# Altium footprint library Vertical Plastic Modular Jack.PcbLib: 10 footprints
Each footprint in its own frame and in the unit in brackets; x right, y up, seen from the top. Pads: shape width x height; smd on the part's side, far side on the other; paste and mask are expansions set on the pad; w line width, h text height; cw(c..) or ccw(c..) is an arc to the next point about the centre after c.
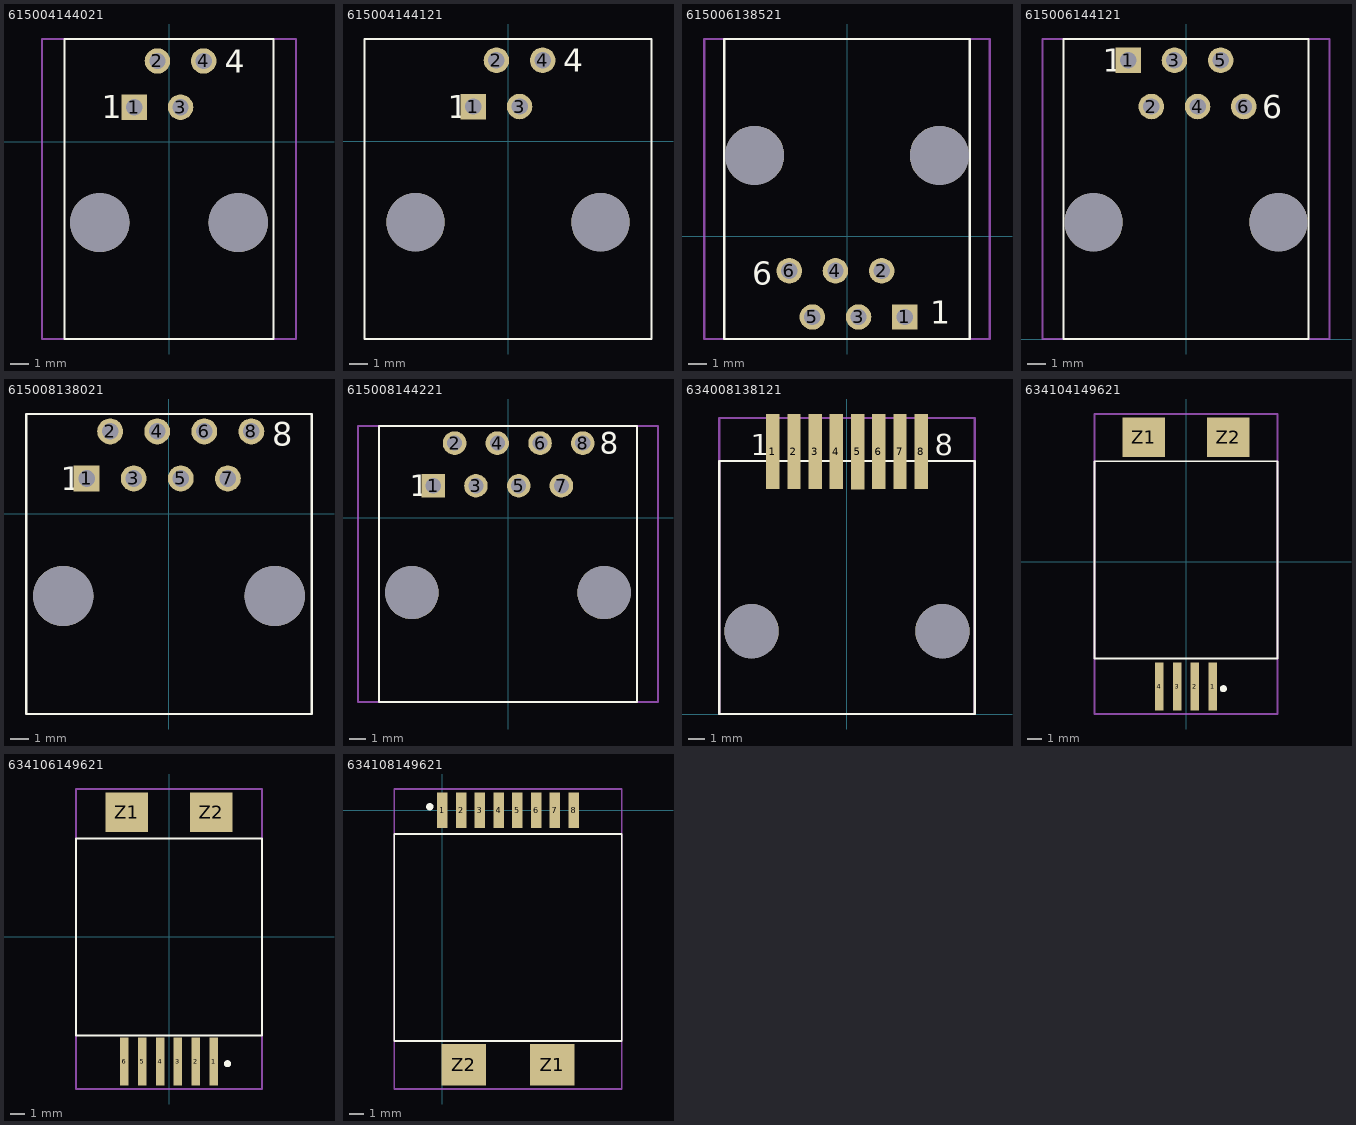
[diagram p0: the footprints below, top view; thin cyan lines are the x and y axes]

## 615004144021 [mm] "Vertical Plastic 1x1 TH    4P4C"
height 15.88
pads (6):
  rect 1.4x1.4 hole 0.9: 1(-1.905,1.905)
  round 1.4 hole 0.9: 2(-0.635,4.445) 3(0.635,1.905) 4(1.905,4.445)
  round 3.25 hole 3.25 unplated: ""(-3.81,-4.445) ""(3.81,-4.445)
Top Overlay:
  lines w0.127: -5.75,-10.845 -5.75,5.655 5.75,5.655 5.75,-10.845 -5.75,-10.845
  text "4" at 3.06,3.805 h1.27
  text "1" at -3.69,1.305 h1.27
Mechanical 15:
  lines w0.127: -6.985,-10.845 -6.985,5.655 6.985,5.655 6.985,-10.845 -6.985,-10.845
3D body: height 16.36, standoff -3.32, extent -6.985,-10.845 6.985,5.655

## 615004144121 [mm] "Vertical Plastic 1x1 TH    6P4C"
height 16.38
pads (6):
  rect 1.4x1.4 hole 0.9: 1(-1.905,1.905)
  round 1.4 hole 0.9: 2(-0.635,4.445) 3(0.635,1.905) 4(1.905,4.445)
  round 3.2 hole 3.2 unplated: ""(-5.08,-4.445) ""(5.08,-4.445)
Top Overlay:
  lines w0.127: -7.887,-10.865 7.887,-10.865 ; -7.887,-10.865 -7.887,5.615 ; -7.887,-10.865 7.887,-10.865 ; -7.887,-10.865 -7.887,5.615 ; -7.887,5.615 7.887,5.615 ; -7.887,5.615 7.887,5.615 ; 7.887,-10.865 7.887,5.615 ; 7.887,-10.865 7.887,5.615
  text "1" at -3.302,1.27 h1.27
  text "4" at 3.048,3.81 h1.27
3D body: height 3.31, standoff -16.37, extent -7.85,-10.865 7.85,5.615

## 615006138521 [mm] "6P6C vertical with ears"
height 15.8
pads (8):
  rect 1.4x1.4 hole 0.9: 1(3.175,-4.445)
  round 1.4 hole 0.9: 2(1.905,-1.905) 3(0.635,-4.445) 4(-0.635,-1.905) 5(-1.905,-4.445) 6(-3.175,-1.905)
  round 3.25 hole 3.25 unplated: ""(-5.08,4.445) ""(5.08,4.445)
Top Overlay:
  lines w0.127: -6.75,-5.655 6.75,-5.655 6.75,10.845 -6.75,10.845 -6.75,-5.655
  text "6" at -5.207,-2.667 h1.27
  text "1" at 4.572,-4.826 h1.27
Mechanical 13:
  lines w0.127: -7.85,-5.655 7.85,-5.655 7.85,10.845 -7.85,10.845 -7.85,-5.35 -7.85,-5.655
Mechanical 15:
  lines w0.127: -7.85,-5.655 -7.85,10.845 7.85,10.845 7.85,-5.655 -7.85,-5.655
3D body: height 16.28, standoff -3.31, extent -7.85,-5.655 7.85,10.845

## 615006144121 [mm] "Vertical Plastic 1x1 TH    6P6C"
height 16.38
pads (8):
  rect 1.4x1.4 hole 0.9: 1(-3.175,15.31)
  round 1.4 hole 0.9: 2(-1.905,12.77) 3(-0.635,15.31) 4(0.635,12.77) 5(1.905,15.31) 6(3.175,12.77)
  round 3.2 hole 3.2 unplated: ""(-5.08,6.42) ""(5.08,6.42)
Top Overlay:
  lines w0.127: -6.725,0 -6.725,16.48 6.725,16.48 6.725,0 -6.725,0
  text "6" at 4.191,12.135 h1.27
  text "1" at -4.572,14.675 h1.27
Mechanical 15:
  lines w0.127: -7.887,0 -7.887,16.48 7.887,16.48 7.887,0 -7.887,0
3D body: height 3.3, standoff -16.38, extent -7.85,0 7.85,16.48

## 615008138021 [mm] "RJ45 Vertical"
height 16.4
pads (10):
  rect 1.4x1.4 hole 0.9: 1(-4.445,1.905)
  round 1.4 hole 0.9: 2(-3.175,4.445) 3(-1.905,1.905) 4(-0.635,4.445) 5(0.635,1.905) 6(1.905,4.445) 7(3.175,1.905) 8(4.445,4.445)
  round 3.25 hole 3.25 unplated: ""(-5.715,-4.445) ""(5.715,-4.445)
Top Overlay:
  lines w0.127: -7.707,-10.815 -7.707,5.385 ; -7.707,-10.815 7.708,-10.815 ; -7.707,-10.815 -7.707,5.385 ; -7.707,-10.815 7.708,-10.815 ; -7.707,5.385 7.708,5.385 ; -7.707,5.385 7.708,5.385 ; 7.708,-10.815 7.708,5.385 ; 7.708,-10.815 7.708,5.385
  text "8" at 5.588,3.683 h1.27
  text "1" at -5.842,1.27 h1.27
3D body: height 2.99, standoff -16.91, extent -7.692,-10.815 7.708,5.385

## 615008144221 [mm] "Vertical Plastic 1x1 TH    8P8C"
height 16.38
pads (10):
  rect 1.4x1.4 hole 0.9: 1(-4.445,1.905)
  round 1.4 hole 0.9: 2(-3.175,4.445) 3(-1.905,1.905) 4(-0.635,4.445) 5(0.635,1.905) 6(1.905,4.445) 7(3.175,1.905) 8(4.445,4.445)
  round 3.17 hole 3.17 unplated: ""(-5.715,-4.445) ""(5.715,-4.445)
Top Overlay:
  lines w0.127: -7.68,-10.945 -7.68,5.455 7.68,5.455 7.68,-10.945 -7.68,-10.945
  text "8" at 5.461,3.81 h1.27
  text "1" at -5.842,1.27 h1.27
Mechanical 15:
  lines w0.127: -8.92,-10.945 -8.92,5.455 8.92,5.455 8.92,-10.945 -8.92,-10.945
3D body: height 3.67, standoff -16.38, extent -8.92,-10.945 8.92,5.455

## 634008138121 [mm] "RJ45 Vertical SMT"
height 15.15
pads (10):
  rect 0.8x4.5 smd: 1(-4.445,15.71) 2(-3.175,15.71) 3(-1.905,15.71) 4(-0.635,15.71) 5(0.635,15.702) 6(1.905,15.71) 7(3.175,15.71) 8(4.445,15.71)
  round 3.25 hole 3.25 unplated: ""(-5.715,4.96) ""(5.715,4.96)
Top Overlay:
  lines w0.127: -7.645,0 7.645,0 7.645,15.15 -7.645,15.15 -7.645,0
  text "1" at -5.75,15.5 h1.27
  text "8" at 5.25,15.5 h1.27
Mechanical 15:
  lines w0.127: -7.645,0 7.645,0 7.645,17.71 -7.645,17.71 -7.645,0
3D body: height 13.08, standoff -2.62, extent -7.62,0 7.62,17.45

## 634104149621 [mm] "WR-MJ_Modular Jack_Top Entry_4P4C T&R with Mylar for Pick & Place"
height 12.9
pads (6):
  rect 0.6x3.4 smd: 1(1.905,-8.855) 2(0.635,-8.855) 3(-0.635,-8.855) 4(-1.905,-8.855)
  rect 3x2.8 smd: Z1(-3,8.855) Z2(3,8.855)
Top Overlay:
  circle w0.3: c2.65,-9 r0.1
  lines w0.127: -6.5,-6.85 -6.5,7.15 6.5,7.15 6.5,-6.85 -6.5,-6.85
Mechanical 15:
  lines w0.127: -6.5,-10.795 6.5,-10.795 6.5,10.505 -6.5,10.505 -6.5,-10.795
3D body: height 12.9, standoff -0.08, extent -6.5,-10 6.5,9.4

## 634106149621 [mm] "WR-MJ_Modular Jack_Top Entry_6P6C T&R with Mylar for Pick & Place"
height 12.9
pads (8):
  rect 0.6x3.4 smd: 1(3.175,-8.85) 2(1.905,-8.85) 3(0.635,-8.85) 4(-0.635,-8.85) 5(-1.905,-8.85) 6(-3.175,-8.85)
  rect 3x2.8 smd: Z1(-3,8.85) Z2(3,8.85)
Top Overlay:
  circle w0.3: c4.15,-9 r0.1
  lines w0.127: -6.6,-7 6.6,-7 6.6,7 -6.6,7 -6.6,-7
Mechanical 15:
  lines w0.127: -6.6,-10.795 -6.6,10.505 6.6,10.505 6.6,-10.795 -6.6,-10.795
3D body: height 13.08, standoff 0, extent -6.6,-10 6.6,9.5

## 634108149621 [mm] "WR-MJ_Modular Jack_Top Entry_8P8C T&R with Mylar for Pick & Place"
height 13
pads (10):
  rect 0.7x2.4 smd: 1(0,0) 2(1.27,0) 3(2.54,0) 4(3.81,0) 5(5.08,0) 6(6.35,0) 7(7.62,0) 8(8.89,0)
  rect 3x2.8 smd: Z1(7.445,-17.2) Z2(1.445,-17.2)
Top Overlay:
  circle w0.3: c-0.85,0.25 r0.1
  lines w0.127: -3.255,-15.6 -3.255,-1.6 12.145,-1.6 12.145,-15.6 -3.255,-15.6
Mechanical 15:
  lines w0.127: -3.255,-18.85 -3.255,1.45 12.145,1.45 12.145,-18.85 -3.255,-18.85
3D body: height 13.52, standoff 0, extent -3.255,-18.1 12.145,0.4